# Altium footprint library INTERFACE-FT230XS-R_SSOP16_.PcbLib: 2 footprints
Each footprint in its own frame and in the unit in brackets; x right, y up, seen from the top. Pads: shape width x height; smd on the part's side, far side on the other; paste and mask are expansions set on the pad; w line width, h text height; cw(c..) or ccw(c..) is an arc to the next point about the centre after c.
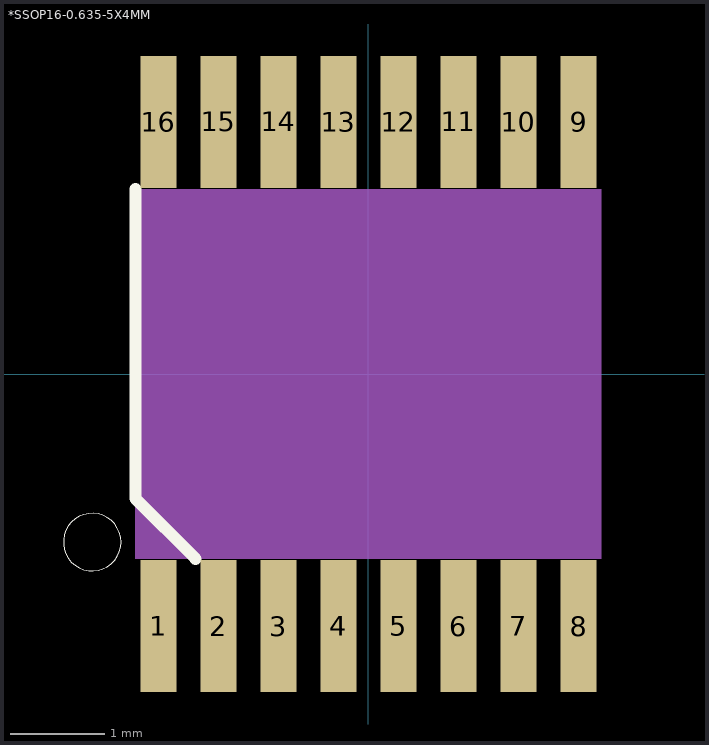
[diagram p0: the footprints below, top view; thin cyan lines are the x and y axes]

## *SSOP16-0.635-5X4MM [mil]
pads (16):
  rect 15x55 smd: 1(-87.5,-105) 2(-62.5,-105) 3(-37.5,-105) 4(-12.5,-105) 5(12.5,-105) 6(37.5,-105) 7(62.5,-105) 8(87.5,-105) 9(87.5,105) 10(62.5,105) 11(37.5,105) 12(12.5,105) 13(-12.5,105) 14(-37.5,105) 15(-62.5,105) 16(-87.5,105)
Top Overlay:
  circle w0: c-115,-70 r12
  lines w5: -97,77 -97,-51.94 -71.94,-77
Mechanical 16:
  region: -97.05,77 97,77 97,-77.04 -97.05,-77.04

## PCBComponent_1 [mil]